# EAGLE library part RAHPCUA20E (library RAHPCUA20E)
USB Type-A 2.0 Connector, Right Angle Horizontal Thru-Hole, Steel Shell Source: Datasheet <https://www.switchcraft.com/assets/1/6/RAHPCUA20E_CD.pdf?9060>
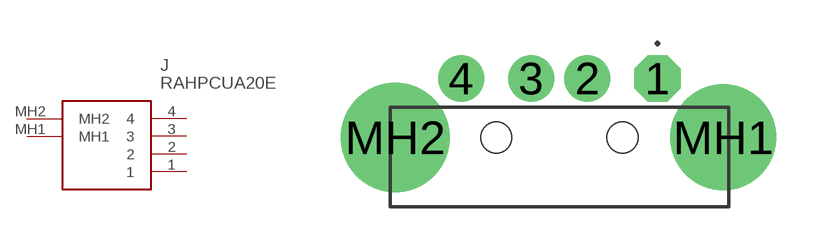
[diagram p0: symbol with the pads of RAHPCUA20E; footprint RAHPCUA20E]

Designator prefix J

## RAHPCUA20E (ARROW_PART_NUMBER: RAHPCUA20E; ARROW_PRICE-STOCK: https://www.arrow.com/en/products/rahpcua20e/switchcraft?region=nac; DESCRIPTION: USB Type-A 2.0 Connector, Right Angle Horizontal Thru-Hole, Steel Shell; HEIGHT: 5mm; MANUFACTURER_NAME: Switchcraft; MANUFACTURER_PART_NUMBER: RAHPCUA20E; MOUSER_PART_NUMBER: 502-RAHPCUA20E; MOUSER_PRICE-STOCK: https://www.mouser.co.uk/ProductDetail/Switchcraft/RAHPCUA20E?qs=rQFj71Wb1eXCXM2gH2lXow%3D%3D)  [RAHPCUA20E]
1  1
2  2
3  3
4  4
MH1  MH1
MH2  MH2

## Footprint RAHPCUA20E (pad centres in mm)
RAHPCUA20E-3
drill 1.1 pad 1.5 octagon: 1 0,0
drill 1.1 pad 1.65: 2 -2.5,0; 3 -4.5,0; 4 -7,0
drill 2.77 pad 3.7: MH1 2.35,-2.1
drill 2.77 pad 3.9: MH2 -9.35,-2.1
hole 1.1 at -1.25,-2.1
hole 1.1 at -5.75,-2.1